# EAGLE library part LMC6482AIM (library IC-Amplifiers)
OpAmpIC Source: Datasheet <https://componentsearchengine.com/Datasheets/2/LMC6482AIM.pdf>
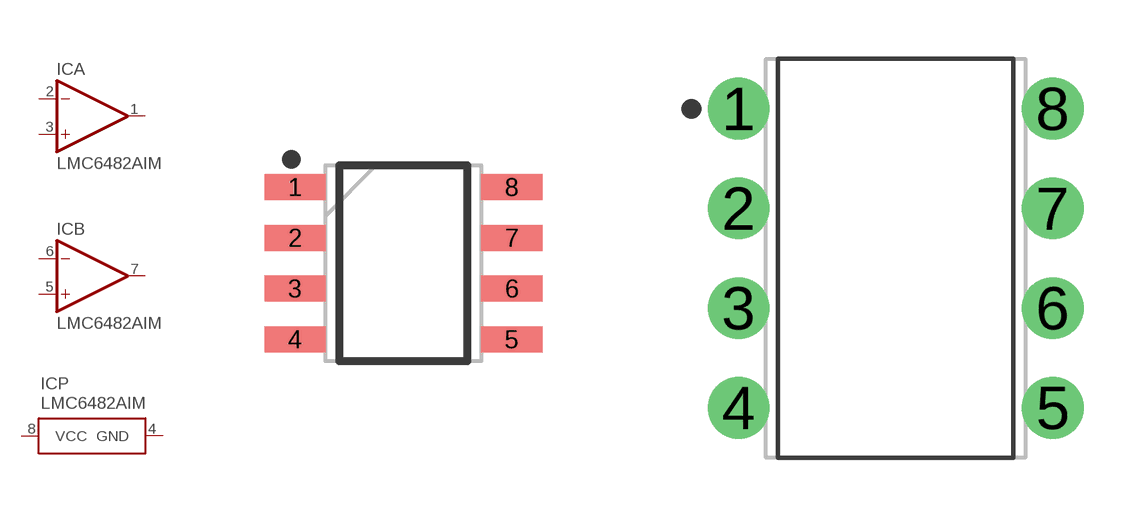
[diagram p1: symbol with the pads of SOIC127P600X175-8N; footprints SOIC127P600X175-8N, DIP8]

Designator prefix IC; gates A=OP-AMP B=OP-AMP P=POWER-CONSORT

## LMC6482AIMSOIC (DATASHEET: https://www.ti.com/lit/ds/symlink/lmc6482.pdf?HQS=dis-dk-null-digikeymode-dsf-pf-null-wwe&ts=1608357515959; DESCRIPTION: CMOS Amplifier 2 Circuit Rail-to-Rail 8-SOIC; LINK: https://www.ti.com/store/ti/en/p/product/?p=LMC6482IMX/NOPB; MANUFACTURER: Texas Instruments; MPN: LMC6482AIM; PACKAGE: SOIC(D))  [SOIC127P600X175-8N]
1  A:OUT  out
2  A:-IN  in
3  A:+IN  in
4  P:GND  pwr
5  B:+IN  in
6  B:-IN  in
7  B:OUT  out
8  P:VCC  pwr

## LMC6482AIMDIP (DATASHEET: Value; DESCRIPTION: value; LINK: Value; MANUFACTURER: value; MPN: value; PACKAGE: Value)  [DIP8]
Pads as for SOIC127P600X175-8N

## Footprint SOIC127P600X175-8N (pad centres in mm)
D0008A
smd 1.528 x 0.65: 1 -2.711,1.905; 2 -2.711,0.635; 3 -2.711,-0.635; 4 -2.711,-1.905; 5 2.711,-1.905; 6 2.711,-0.635; 7 2.711,0.635; 8 2.711,1.905

## Footprint DIP8 (pad centres in mm)
drill 0.786 pad 1.572: 1 -4,3.81; 2 -4,1.27; 3 -4,-1.27; 4 -4,-3.81; 5 4,-3.81; 6 4,-1.27; 7 4,1.27; 8 4,3.81